# EAGLE library part RGB_LCD (library safe_code)
Display; Display: LCD 2x16 characters (blue backlight) Check availability <https://pricing.snapeda.com/parts/LCD2X16/mikroElektronika/view-part?ref=eda>
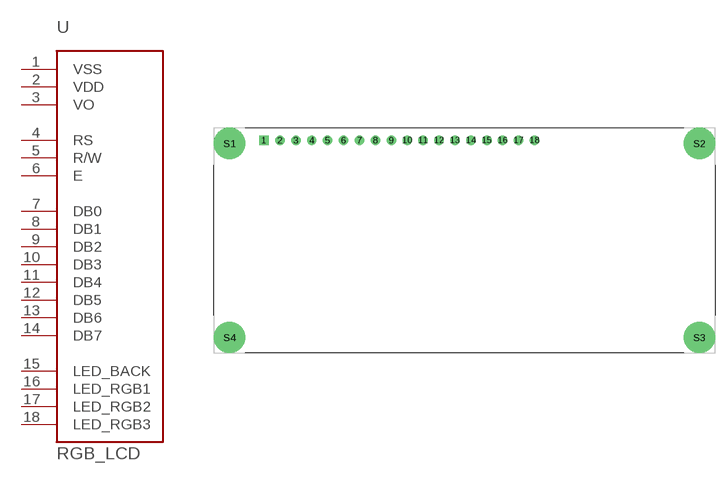
[diagram p4: symbol with the pads of RGB_LCD; footprint RGB_LCD]

Designator prefix U

## RGB_LCD_16026_16X2_BYG_5V (AVAILABILITY: Not in stock; CHECK_PRICES: https://www.snapeda.com/parts/LCD2X16/mikroElektronika/view-part/?ref=eda; DESCRIPTION: Display; Display: LCD 2x16 characters (blue backlight); MF: mikroElektronika; MP: LCD2X16; PACKAGE: None; PRICE: None; SNAPEDA_LINK: https://www.snapeda.com/parts/LCD2X16/mikroElektronika/view-part/?ref=snap)  [RGB_LCD]
1  VSS  pwr
2  VDD  pwr
3  VO  pas
4  RS  in
5  R/W  in
6  E  in
7  DB0
8  DB1
9  DB2
10  DB3
11  DB4
12  DB5
13  DB6
14  DB7
15  LED_BACK  pas
16  LED_RGB1  pas
17  LED_RGB2  pas
18  LED_RGB3  pas

## Footprint RGB_LCD (pad centres in mm)
drill 1 square: 1 -32,16
drill 1: 2 -29.46,16; 3 -26.92,16; 4 -24.38,16; 5 -21.84,16; 6 -19.3,16; 7 -16.76,16; 8 -14.22,16; 9 -11.68,16; 10 -9.14,16; 11 -6.6,16; 12 -4.06,16; 13 -1.52,16; 14 1.02,16; 15 3.56,16; 16 6.1,16; 17 8.64,16; 18 11.18,16
drill 2.5 pad 5: S1 -37.5,15.5; S2 37.5,15.5; S3 37.5,-15.5; S4 -37.5,-15.5